# EAGLE library part ATMEGA328P (library analyzer)
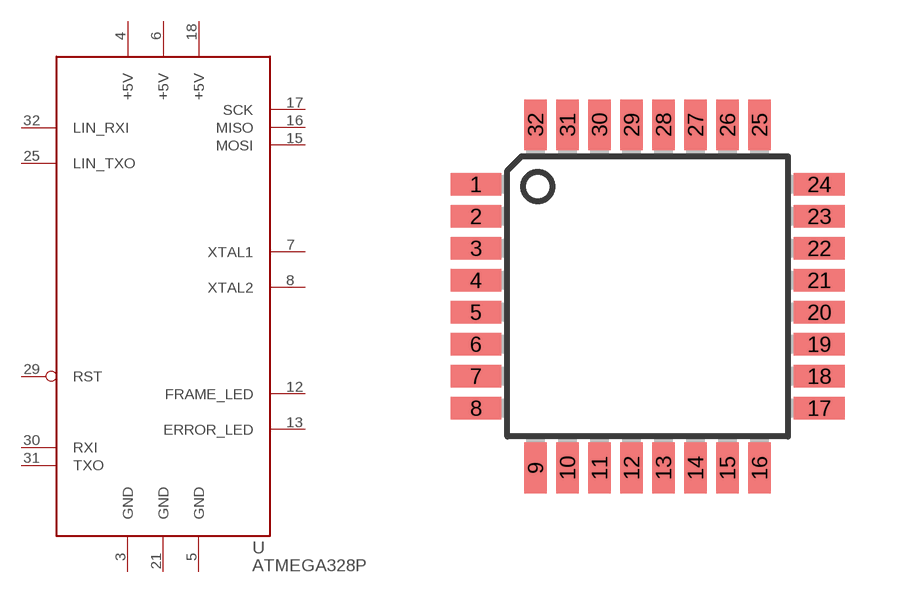
[diagram p0: symbol with the pads of TQFP32-08; footprint TQFP32-08]

Designator prefix -

## ATMEGA328P  [TQFP32-08]
3  GND  pwr
4  +5V  pwr
5  GND  pwr
6  +5V  pwr
7  XTAL1  pas
8  XTAL2  pas
12  FRAME_LED  out
13  ERROR_LED  out
15  MOSI  in
16  MISO  in
17  SCK  out
18  +5V  pwr
21  GND  pwr
25  LIN_TXO  out
29  RST  in
30  RXI  out
31  TXO  in
32  LIN_RXI  in

## Footprint TQFP32-08 (pad centres in mm)
Thin Plasic Quad Flat Package Grid 0.8 mm
smd 1.27 x 0.559: 1 -4.293,2.8; 2 -4.293,2; 3 -4.293,1.2; 4 -4.293,0.4; 5 -4.293,-0.4; 6 -4.293,-1.2; 7 -4.293,-2; 8 -4.293,-2.8; 17 4.293,-2.8; 18 4.293,-2; 19 4.293,-1.2; 20 4.293,-0.4; 21 4.293,0.4; 22 4.293,1.2; 23 4.293,2; 24 4.293,2.8
smd 0.559 x 1.27: 9 -2.8,-4.293; 10 -2,-4.293; 11 -1.2,-4.293; 12 -0.4,-4.293; 13 0.4,-4.293; 14 1.2,-4.293; 15 2,-4.293; 16 2.8,-4.293; 25 2.8,4.293; 26 2,4.293; 27 1.2,4.293; 28 0.4,4.293; 29 -0.4,4.293; 30 -1.2,4.293; 31 -2,4.293; 32 -2.8,4.293